# EAGLE library part LM2575-5.0 (library SD-SolderSync-Library)
Microchip LM2575-5.0WU, Inverting, Step Down DC-DC Converter, 1A, 6-Pin TO-263 Source: Datasheet <http://ww1.microchip.com/downloads/en/DeviceDoc/lm2575.pdf>
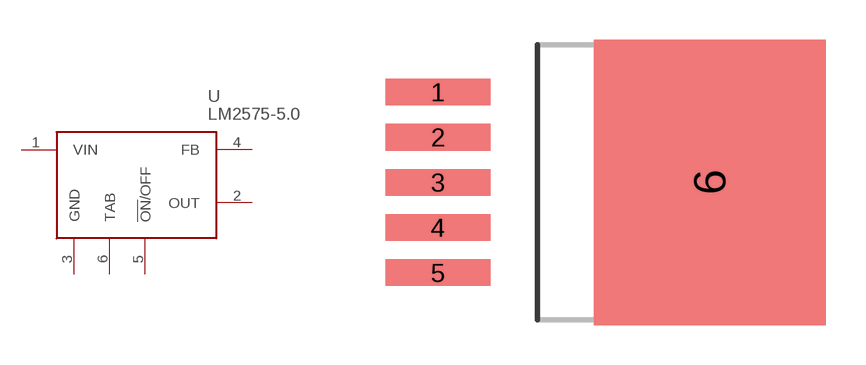
[diagram p11: symbol with the pads of MICROCHIP_TO-263; footprint MICROCHIP_TO-263]

Designator prefix U

## LM2575-5.0 (DESCRIPTION: Microchip LM2575-5.0WU, Inverting, Step Down DC-DC Converter, 1A, 6-Pin TO-263; HEIGHT: mm; MANUFACTURER_NAME: Microchip; MANUFACTURER_PART_NUMBER: LM2575-5.0WU; MOUSER_PART_NUMBER: 998-LM2575-5.0WU; MOUSER_PRICE-STOCK: https://www.mouser.co.uk/ProductDetail/Microchip-Technology/LM2575-5.0WU?qs=kh6iOki%2FeLGUJkdNakLUEw%3D%3D)  [MICROCHIP_TO-263]
1  VIN
2  OUT
3  GND
4  FB
5  !ON!/OFF
6  TAB

## Footprint MICROCHIP_TO-263 (pad centres in mm)
Microchip_TO-263
smd 3.95 x 1: 1 -12.529,3.404; 2 -12.529,1.702; 3 -12.529,0; 4 -12.529,-1.702; 5 -12.529,-3.404
smd 8.75 x 10.75: 6 -2.279,0